# Altium schematic symbol library RES EXT.SchLib: 8 symbols
Pins are listed as number, name and electrical type; pins without a type are passive.

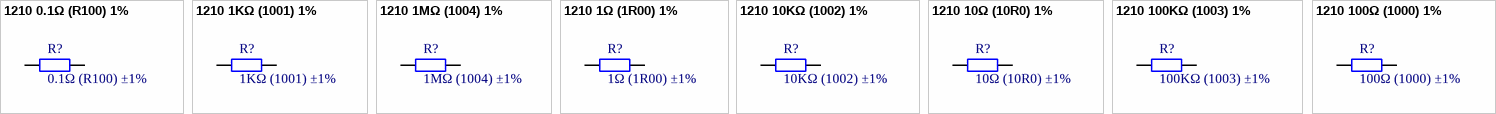
[diagram p0: symbols 1210 0.1Ω (R100) 1% to 1210 100Ω (1000) 1%]

## 1210 0.1Ω (R100) 1%
designator R?, comment 0.1Ω (R100) ±1%
贴片电阻; ComponentLink1Description: 供应商链接; ComponentLink1URL: https://item.szlcsc.com/260272.html; Package: 1210; Supplier: LC; SuppliersPartNumber: C270892
footprint 1210_R
pins: 1, 2

## 1210 1KΩ (1001) 1%
designator R?, comment 1KΩ (1001) ±1%
贴片电阻; ComponentLink1Description: 供应商链接; ComponentLink1URL: http://www.szlcsc.com/product/details_84308.html; Package: 1210; Supplier: LC; SuppliersPartNumber: C83144
footprint 1210_R
pins: 1, 2

## 1210 1MΩ (1004) 1%
designator R?, comment 1MΩ (1004) ±1%
贴片电阻; ComponentLink1Description: 供应商链接; ComponentLink1URL: http://www.szlcsc.com/product/details_650535.html; Package: 1210; Supplier: LC; SuppliersPartNumber: C620664
footprint 1210_R
pins: 1, 2

## 1210 1Ω (1R00) 1%
designator R?, comment 1Ω (1R00) ±1%
贴片电阻; ComponentLink1Description: 供应商链接; ComponentLink1URL: https://item.szlcsc.com/170748.html; Package: 1210; Supplier: LC; SuppliersPartNumber: C159369
footprint 1210_R
pins: 1, 2

## 1210 10KΩ (1002) 1%
designator R?, comment 10KΩ (1002) ±1%
贴片电阻; ComponentLink1Description: 供应商链接; ComponentLink1URL: https://item.szlcsc.com/415380.html; Package: 1210; Supplier: LC; SuppliersPartNumber: C422430
footprint 1210_R
pins: 1, 2

## 1210 10Ω (10R0) 1%
designator R?, comment 10Ω (10R0) ±1%
贴片电阻; ComponentLink1Description: 供应商链接; ComponentLink1URL: https://item.szlcsc.com/45453.html; Package: 1210; Supplier: LC; SuppliersPartNumber: C44451
footprint 1210_R
pins: 1, 2

## 1210 100KΩ (1003) 1%
designator R?, comment 100KΩ (1003) ±1%
贴片电阻; ComponentLink1Description: 供应商链接; ComponentLink1URL: http://www.szlcsc.com/product/details_650531.html; Package: 1210; Supplier: LC; SuppliersPartNumber: C620660
footprint 1210_R
pins: 1, 2

## 1210 100Ω (1000) 1%
designator R?, comment 100Ω (1000) ±1%
贴片电阻; ComponentLink1Description: 供应商链接; ComponentLink1URL: http://www.szlcsc.com/product/details_650532.html; Package: 1210; Supplier: LC; SuppliersPartNumber: C620661
footprint 1210_R
pins: 1, 2